# Altium footprint library chip.PcbLib: 89 footprints (part 3 of 6)
Each footprint in its own frame and in the unit in brackets; x right, y up, seen from the top. Pads: shape width x height; smd on the part's side, far side on the other; paste and mask are expansions set on the pad; w line width, h text height; cw(c..) or ccw(c..) is an arc to the next point about the centre after c.
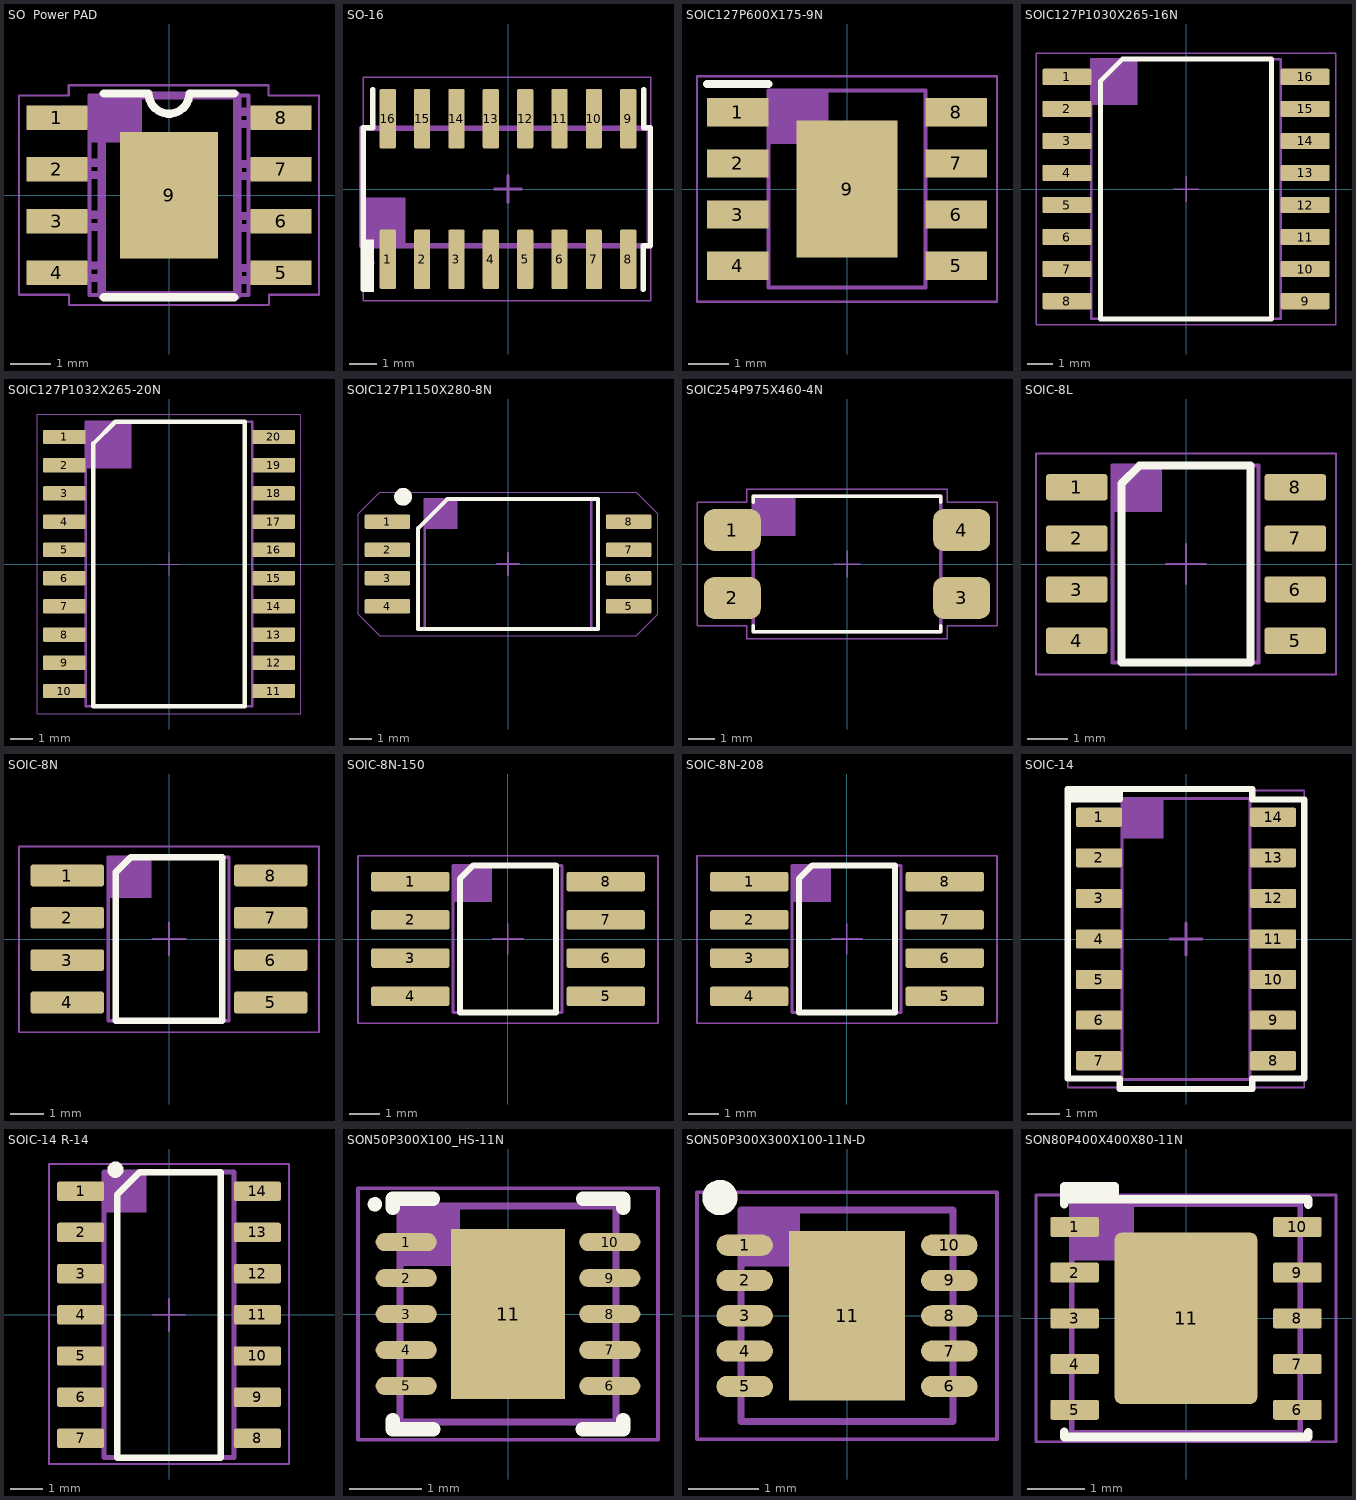
[diagram p2: the footprints below, top view; thin cyan lines are the x and y axes]

## SO  Power PAD [mm]
pads (9):
  rect 1.5x0.6 smd: 1(-2.75,1.905) 2(-2.75,0.635) 3(-2.75,-0.635) 4(-2.75,-1.905) 5(2.75,-1.905) 6(2.75,-0.635) 7(2.75,0.635) 8(2.75,1.905)
  rect 2.4x3.1 smd: 9(0,0)
Top Overlay:
  lines w0.2: -1.6,-2.5 1.6,-2.5 ; -1.6,2.5 -0.5,2.5 ccw(c0,2.5) 0.5,2.5 1.6,2.5
Bottom Dimensions:
  lines w0.2: -2.85,-2.025 -1.65,-2.025 -1.65,-1.725 -2.85,-1.725 -2.85,-2.025 ; -2.85,-0.775 -1.65,-0.775 -1.65,-0.475 -2.85,-0.475 -2.85,-0.775 ; -2.85,0.5 -1.65,0.5 -1.65,0.8 -2.85,0.8 -2.85,0.5 ; -2.85,1.775 -1.65,1.775 -1.65,2.075 -2.85,2.075 -2.85,1.775 ; -1.65,-2.45 -1.65,2.2 -1.4,2.45 1.675,2.45 1.675,-2.45 -1.65,-2.45 ; 1.675,1.75 2.875,1.75 2.875,2.05 1.675,2.05 1.675,1.75 ; 1.687,-2.079 2.887,-2.079 2.887,-1.779 1.687,-1.779 1.687,-2.079 ; 1.687,-0.804 2.887,-0.804 2.887,-0.504 1.687,-0.504 1.687,-0.804 ; 1.687,0.471 2.887,0.471 2.887,0.771 1.687,0.771 1.687,0.471
  text ".Designator" at -1.95,2.9 h1
Top Assembly:
  rectangle: -1.95,1.295 -0.665,2.45
  lines w0.1: -2.95,-1.905 -1.95,-1.905 ; -2.95,-0.635 -1.95,-0.635 ; -2.95,0.635 -1.95,0.635 ; -2.95,1.905 -1.95,1.905 ; 1.95,-1.905 2.95,-1.905 ; 1.95,-0.635 2.95,-0.635 ; 1.95,0.635 2.95,0.635 ; 1.95,1.905 2.95,1.905 ; -1.95,-2.45 -1.95,2.45 1.95,2.45 1.95,-2.45 -1.95,-2.45
Top Courtyard:
  lines w0.051: 3.67,2.45 2.44,2.45 2.44,2.7 -2.46,2.7 -2.46,2.45 -3.68,2.45 -3.68,-2.44 -2.45,-2.44 -2.45,-2.69 2.45,-2.69 2.45,-2.44 3.68,-2.44 3.68,2.45
  lines w0.1: -0.25,0 0.25,0 ; 0,-0.25 0,0.25
3D body "SOIC-8.step": height 1.75, standoff 0, extent -3,-2.45 3,2.45

## SO-16 [mm]
pads (16):
  rrect20% 0.6x2.2 smd: 1(-4.445,-2.6) 2(-3.175,-2.6) 3(-1.905,-2.6) 4(-0.635,-2.6) 5(0.635,-2.6) 6(1.905,-2.6) 7(3.175,-2.6) 8(4.445,-2.6) 9(4.445,2.6) 10(3.175,2.6) 11(1.905,2.6) 12(0.635,2.6) 13(-0.635,2.6) 14(-1.905,2.6) 15(-3.175,2.6) 16(-4.445,2.6)
Top Overlay:
  rectangle: -5.349,-3.8 -4.95,-1.876
  lines w0.2: -5.349,-3.7 -5.349,-2.264 -5.349,2.259 -5.011,2.259 ; -5,2.259 -5,3.675 ; 5,-3.7 5,-2.093 5.268,-2.093 5.268,2.259 5.011,2.259 5.011,3.675
Top Designator:
  text ".Designator" at -3.024,4.5 h0.6
Bottom Dimensions:
  circle w0.2: c-5.15,-2.725 r0.106
Top Assembly:
  rectangle: -5.35,-2.101 -3.78,-0.315
  lines w0.2: -4.604,-2.142 -4.604,-2.942 -4.304,-2.942 -4.304,-2.142 ; -4.594,2.266 -4.594,3.066 -4.294,3.066 -4.294,2.266 ; -3.334,-2.142 -3.334,-2.942 -3.034,-2.942 -3.034,-2.142 ; -3.325,2.275 -3.325,3.075 -3.025,3.075 -3.025,2.275 ; -2.064,-2.142 -2.064,-2.942 -1.764,-2.942 -1.764,-2.142 ; -2.05,2.275 -2.05,3.075 -1.75,3.075 -1.75,2.275 ; -0.794,-2.142 -0.794,-2.942 -0.494,-2.942 -0.494,-2.142 ; -0.775,2.275 -0.775,3.075 -0.475,3.075 -0.475,2.275 ; 0.476,-2.142 0.476,-2.942 0.776,-2.942 0.776,-2.142 ; 0.5,2.275 0.5,3.075 0.8,3.075 0.8,2.275 ; 1.746,-2.142 1.746,-2.942 2.046,-2.942 2.046,-2.142 ; 1.752,2.255 1.752,3.055 2.052,3.055 2.052,2.255 ; 3.016,-2.142 3.016,-2.942 3.316,-2.942 3.316,-2.142 ; 3.039,2.277 3.039,3.077 3.339,3.077 3.339,2.277 ; 4.286,-2.142 4.286,-2.942 4.586,-2.942 4.586,-2.142 ; 4.326,2.284 4.326,3.084 4.626,3.084 4.626,2.284 ; 5.199,2.251 -5.4,2.251 -5.4,-2.101 5.217,-2.101 5.217,2.251
Top Courtyard:
  lines w0.05: -5.35,-4.125 5.275,-4.125 5.275,4.125 -5.35,4.125 -5.35,-4.125
  lines w0.1: -0.5,0 0.5,0 ; 0,-0.5 0,0.5
3D body "User Library-SOIC-16-150.STEP": height 1.64, standoff -0.11, extent -4.953,-3.048 5.047,3.152

## SOIC127P600X175-9N [mm]
pads (9):
  rect 1.525x0.7 smd: 1(-2.712,1.905) 2(-2.712,0.635) 3(-2.712,-0.635) 4(-2.712,-1.905) 5(2.712,-1.905) 6(2.712,-0.635) 7(2.712,0.635) 8(2.712,1.905)
  rect 2.513x3.402 smd: 9(0,0)
Top Overlay:
  lines w0.2: -3.475,2.605 -1.95,2.605
Top Assembly:
  rectangle: -1.95,1.12 -0.455,2.45
  lines w0.1: -1.95,-2.45 -1.95,2.45 1.95,2.45 1.95,-2.45 -1.95,-2.45
Top Courtyard:
  lines w0.05: -3.725,-2.8 -3.725,2.8 3.725,2.8 3.725,-2.8 -3.725,-2.8
3D body "TP4056X.stp": height 1.75, standoff 0, extent -3,-2.45 3,2.45

## SOIC127P1030X265-16N [mm]
pads (16):
  rrect20% 1.95x0.65 smd: 1(-4.725,4.445) 2(-4.725,3.175) 3(-4.725,1.905) 4(-4.725,0.635) 5(-4.725,-0.635) 6(-4.725,-1.905) 7(-4.725,-3.175) 8(-4.725,-4.445) 9(4.725,-4.445) 10(4.725,-3.175) 11(4.725,-1.905) 12(4.725,-0.635) 13(4.725,0.635) 14(4.725,1.905) 15(4.725,3.175) 16(4.725,4.445)
Top Overlay:
  lines w0.2: -3.4,-5.15 -3.4,4.275 -2.525,5.15 3.4,5.15 3.4,-5.15 -3.4,-5.15
Top Designator:
  text ".Designator" at -5.424,5.825 h0.6
Top Assembly:
  rectangle: -3.75,3.325 -1.925,5.15
  lines w0.1: -3.75,-5.15 -3.75,5.15 3.75,5.15 3.75,-5.15 -3.75,-5.15
Top Courtyard:
  lines w0.05: -0.5,0 0.5,0 ; 0,-0.5 0,0.5 ; -5.95,-5.375 -5.95,5.375 5.95,5.375 5.95,-5.375 -5.95,-5.375
3D body "ISO3082DW.stp": height 2.59, standoff 0, extent -5.167,-5.15 5.168,5.15

## SOIC127P1032X265-20N [mm]
pads (20):
  rrect20% 1.925x0.65 smd: 1(-4.712,5.715) 2(-4.712,4.445) 3(-4.712,3.175) 4(-4.712,1.905) 5(-4.712,0.635) 6(-4.712,-0.635) 7(-4.712,-1.905) 8(-4.712,-3.175) 9(-4.712,-4.445) 10(-4.712,-5.715) 11(4.712,-5.715) 12(4.712,-4.445) 13(4.712,-3.175) 14(4.712,-1.905) 15(4.712,-0.635) 16(4.712,0.635) 17(4.712,1.905) 18(4.712,3.175) 19(4.712,4.445) 20(4.712,5.715)
Top Overlay:
  lines w0.2: -3.4,-6.4 3.4,-6.4 3.4,6.4 -2.425,6.4 -3.4,5.425 -3.4,-6.4
Top Designator:
  text ".Designator" at -4.599,7.45 h0.6
Top Assembly:
  rectangle: -3.75,4.305 -1.68,6.4
  lines w0.1: -3.75,-6.4 3.75,-6.4 3.75,6.4 -3.75,6.4 -3.75,-6.4
Top Courtyard:
  lines w0.05: -0.5,0 0.5,0 ; 0,-0.5 0,0.5 ; -5.925,-6.75 -5.925,6.75 5.925,6.75 5.925,-6.75 -5.925,-6.75
3D body "ADM2582EBRWZ-REEL7.stp": height 2.65, standoff 0, extent -5.162,-6.4 5.162,6.4

## SOIC127P1150X280-8N [mm]
pads (8):
  rrect20% 2.05x0.65 smd: 1(-5.425,1.905) 2(-5.425,0.635) 3(-5.425,-0.635) 4(-5.425,-1.905) 5(5.425,-1.905) 6(5.425,-0.635) 7(5.425,0.635) 8(5.425,1.905)
Top Overlay:
  circle w0.4: c-4.725,3.025 r0.2
  lines w0.2: -4.05,-2.925 4.05,-2.925 4.05,2.925 -2.725,2.925 -4.05,1.6 -4.05,-2.925
Top Designator:
  text ".Designator" at -3.049,3.725 h0.6
Top Assembly:
  rectangle: -3.75,1.575 -2.275,2.925
  lines w0.1: -3.75,-2.925 3.75,-2.925 3.75,2.925 -3.75,2.925 -3.75,-2.925
Top Courtyard:
  lines w0.05: -6.75,-2.25 -6.75,2.25 -5.775,3.225 5.775,3.225 6.75,2.25 6.75,-2.25 5.775,-3.225 -5.775,-3.225 -6.75,-2.25
  lines w0.1: -0.5,0 0.5,0 ; 0,-0.5 0,0.5
3D body "CA-IS3050G.stp": height 2.8, standoff 0, extent -5.75,-2.925 5.75,2.925

## SOIC254P975X460-4N [mm]
pads (4):
  rrect50% 2.13x1.57 smd: 1(-4.29,1.27) 2(-4.29,-1.27) 3(4.29,-1.27) 4(4.29,1.27)
Top Overlay:
  lines w0.127: -3.5,-2.304 -3.5,-2.54 3.5,-2.54 3.5,-2.304 ; -3.5,2.304 -3.5,2.54 3.5,2.54 3.5,2.304
Top Designator:
  text ".Designator" at -2.999,3.1 h0.6
Top Assembly:
  rectangle: -3.5,1.05 -1.925,2.54
  lines w0.127: -3.5,-2.54 -3.5,2.54 3.5,2.54 3.5,-2.54 -3.5,-2.54
Top Courtyard:
  lines w0.05: -0.5,0 0.5,0 ; 0,-0.5 0,0.5 ; -5.61,-2.31 -3.75,-2.31 -3.75,-2.79 3.75,-2.79 3.75,-2.31 5.61,-2.31 5.61,2.31 3.75,2.31 3.75,2.79 -3.75,2.79 -3.75,2.31 -5.61,2.31 -5.61,-2.31
3D body "step_temp.STEP": height 4, standoff 0, extent -4.875,-2.29 4.875,2.29

## SOIC-8L [mm] "SOIC127P600X175-8N"
pads (8):
  rrect20% 1.525x0.65 smd: 1(-2.712,1.905) 2(-2.712,0.635) 3(-2.712,-0.635) 4(-2.712,-1.905) 5(2.712,-1.905) 6(2.712,-0.635) 7(2.712,0.635) 8(2.712,1.905)
Top Overlay:
  lines w0.2: -1.6,-2.45 -1.6,2 -1.15,2.45 1.6,2.45 1.6,-2.45 -1.6,-2.45
Top Designator:
  text ".Designator" at -2.999,3.1 h0.6
Top Assembly:
  rectangle: -1.825,1.295 -0.595,2.45
  lines w0.1: -1.825,-2.45 -1.825,2.45 1.8,2.45 1.8,-2.45 -1.825,-2.45
Top Courtyard:
  lines w0.05: -0.5,0 0.5,0 ; 0,-0.5 0,0.5 ; -3.725,-2.75 -3.725,2.75 3.725,2.75 3.725,-2.75 -3.725,-2.75
3D body "SOP-8.STEP": height 1.87, standoff 0, extent -3.11,-2.5 3.11,2.5

## SOIC-8N [mm] "SOIC127P600X175-8N"
pads (8):
  rrect20% 2.2x0.65 smd: 1(-3.05,1.905) 2(-3.05,0.635) 3(-3.05,-0.635) 4(-3.05,-1.905) 5(3.05,-1.905) 6(3.05,-0.635) 7(3.05,0.635) 8(3.05,1.905)
Top Overlay:
  lines w0.2: -1.6,-2.45 1.6,-2.45 1.6,2.45 -1.15,2.45 -1.6,2 -1.6,-2.45
Top Designator:
  text ".Designator" at -2.874,2.925 h0.6
Top Assembly:
  rectangle: -1.825,1.225 -0.525,2.45
  lines w0.1: -1.825,-2.45 1.8,-2.45 1.8,2.45 -1.825,2.45 -1.825,-2.45
Top Courtyard:
  lines w0.05: -0.5,0 0.5,0 ; 0,-0.5 0,0.5 ; -4.5,-2.8 4.5,-2.8 4.5,-1.425 4.5,-0.6 4.5,1.55 4.5,2.775 -4.5,2.775 -4.5,-2.8
3D body "SOP-8.STEP": height 1.87, standoff 0, extent -3.11,-2.5 3.11,2.5

## SOIC-8N-150 [mm]
pads (8):
  rrect20% 2.6x0.65 smd: 1(-3.25,1.905) 2(-3.25,0.635) 3(-3.25,-0.635) 4(-3.25,-1.905) 5(3.25,-1.905) 6(3.25,-0.635) 7(3.25,0.635) 8(3.25,1.905)
Top Overlay:
  lines w0.2: -1.6,-2.45 -1.6,2 -1.15,2.45 1.6,2.45 1.6,-2.45 -1.6,-2.45
Top Designator:
  text ".Designator" at -2.874,2.925 h0.6
Top Assembly:
  rectangle: -1.825,1.225 -0.525,2.45
  lines w0.1: -1.825,-2.45 -1.825,2.45 1.8,2.45 1.8,-2.45 -1.825,-2.45
Top Courtyard:
  lines w0.05: -0.5,0 0.5,0 ; 0,-0.5 0,0.5 ; -4.99,-2.8 -4.99,2.775 4.99,2.775 4.99,1.55 4.99,-0.6 4.99,-1.425 4.99,-2.8 -4.99,-2.8
3D body "SOP-8.STEP": height 1.87, standoff 0, extent -3.11,-2.5 3.11,2.5

## SOIC-8N-208 [mm]
pads (8):
  rrect20% 2.6x0.65 smd: 1(-3.25,1.905) 2(-3.25,0.635) 3(-3.25,-0.635) 4(-3.25,-1.905) 5(3.25,-1.905) 6(3.25,-0.635) 7(3.25,0.635) 8(3.25,1.905)
Top Overlay:
  lines w0.2: -1.6,-2.45 -1.6,2 -1.15,2.45 1.6,2.45 1.6,-2.45 -1.6,-2.45
Top Designator:
  text ".Designator" at -2.874,2.925 h0.6
Top Assembly:
  rectangle: -1.825,1.225 -0.525,2.45
  lines w0.1: -1.825,-2.45 -1.825,2.45 1.8,2.45 1.8,-2.45 -1.825,-2.45
Top Courtyard:
  lines w0.05: -0.5,0 0.5,0 ; 0,-0.5 0,0.5 ; -4.99,-2.8 -4.99,2.775 4.99,2.775 4.99,1.55 4.99,-0.6 4.99,-1.425 4.99,-2.8 -4.99,-2.8
3D body "W25Q80DVSSIG.stp": height 2.16, standoff 0, extent -3.95,-2.64 3.95,2.64

## SOIC-14 [mm] "SOIC, 14-Leads, Body 8.65x3.90mm, Pitch 1.27mm, IPC Medium Density"
height 1.75
pads (14):
  rrect20% 1.45x0.6 smd: 1(-2.725,3.81) 2(-2.725,2.54) 3(-2.725,1.27) 4(-2.725,0) 5(-2.725,-1.27) 6(-2.725,-2.54) 7(-2.725,-3.81) 8(2.725,-3.81) 9(2.725,-2.54) 10(2.725,-1.27) 11(2.725,0) 12(2.725,1.27) 13(2.725,2.54) 14(2.725,3.81)
Top Overlay:
  lines w0.2: -3.7,-4.365 -2.075,-4.365 -2.075,-4.696 2.075,-4.696 2.075,-4.365 3.7,-4.365 ; -3.7,-4.35 -3.7,4.696 -2.075,4.696 ; -3.7,4.365 -2.075,4.365 -2.075,4.696 ; -3.675,4.531 -2.075,4.531 ; 3.7,-4.35 3.7,4.365 2.075,4.365 2.075,4.696 -2.075,4.696
Top Assembly:
  rectangle: -2,3.15 -0.7,4.4
  lines w0.1: -2,-4.4 -2,4.4 2,4.4 2,-4.4 -2,-4.4
Top Courtyard:
  lines w0.05: -3.7,-4.65 -3.7,4.65 3.7,4.65 3.7,-4.65 -3.7,-4.65
  lines w0.1: -0.5,0 0.5,0 ; 0,-0.5 0,0.5
3D body "ANALOG DEVICES SOIC-14 R-14.step": height 1.75, standoff 0, extent -3,-4.4 3,4.4

## SOIC-14 R-14 [mm] "SOIC, 14-Leads, Body 8.65x3.90mm, Pitch 1.27mm, IPC Medium Density"
height 1.75
pads (14):
  rrect20% 1.45x0.6 smd: 1(-2.725,3.81) 2(-2.725,2.54) 3(-2.725,1.27) 4(-2.725,0) 5(-2.725,-1.27) 6(-2.725,-2.54) 7(-2.725,-3.81) 8(2.725,-3.81) 9(2.725,-2.54) 10(2.725,-1.27) 11(2.725,0) 12(2.725,1.27) 13(2.725,2.54) 14(2.725,3.81)
Top Overlay:
  circle w0.25: c-1.65,4.475 r0.125
  lines w0.2: -1.6,-4.4 -1.6,3.7 -0.9,4.4 1.6,4.4 1.6,-4.4 -1.6,-4.4
Top Designator:
  text ".Designator" at -3.224,4.875 h0.6
Top Assembly:
  rectangle: -2,3.15 -0.7,4.4
  lines w0.15: -2.059,-3.673 -2.725,-3.673 -2.725,-3.947 -2,-3.947 ; -2.059,-2.403 -2.725,-2.403 -2.725,-2.677 -2,-2.677 ; -2.059,-1.133 -2.725,-1.133 -2.725,-1.407 -2,-1.407 ; -2.059,0.137 -2.725,0.137 -2.725,-0.137 -2,-0.137 ; -2.059,1.407 -2.725,1.407 -2.725,1.133 -2,1.133 ; -2.059,2.677 -2.725,2.677 -2.725,2.403 -2,2.403 ; -2.059,3.947 -2.725,3.947 -2.725,3.673 -2,3.673 ; 2,-3.673 2.725,-3.673 2.725,-3.947 2.059,-3.947 ; 2,-2.403 2.725,-2.403 2.725,-2.677 2.059,-2.677 ; 2,-1.133 2.725,-1.133 2.725,-1.407 2.059,-1.407 ; 2,0.137 2.725,0.137 2.725,-0.137 2.059,-0.137 ; 2,1.407 2.725,1.407 2.725,1.133 2.059,1.133 ; 2,2.677 2.725,2.677 2.725,2.403 2.059,2.403 ; 2,3.947 2.725,3.947 2.725,3.673 2.059,3.673 ; -2,-4.4 -2,4.4 2,4.4 2,-4.4 -2,-4.4
Top Courtyard:
  lines w0.05: -0.5,0 0.5,0 ; 0,-0.5 0,0.5 ; -3.7,-4.6 -3.7,4.65 3.7,4.65 3.7,-4.6 -3.7,-4.6
3D body "ANALOG DEVICES SOIC-14 R-14.step": height 1.75, standoff 0, extent -3,-4.4 3,4.4

## SON50P300X100_HS-11N [mm]
pads (11):
  oval 0.85x0.25 smd: 1(-1.415,1) 2(-1.415,0.5) 3(-1.415,0) 4(-1.415,-0.5) 5(-1.415,-1) 6(1.415,-1) 7(1.415,-0.5) 8(1.415,0) 9(1.415,0.5) 10(1.415,1)
  rect 1.58x2.36 smd paste-50: 11(0,0)
Top Overlay:
  circle w0.1: c-1.85,1.525 r0.05
  lines w0.2: -1.603,1.478 -1.603,1.603 -1.043,1.603 ; -1.602,-1.477 -1.602,-1.602 -1.042,-1.602 ; 1.041,-1.603 1.601,-1.603 1.601,-1.478 ; 1.043,1.604 1.603,1.604 1.603,1.479
Top Paste:
  region: -0.508,-0.254 -0.508,-1.016 0.508,-1.016 0.508,-0.254
  region: 0.508,0.254 0.508,1.016 -0.508,1.016 -0.508,0.254
Top Designator:
  text ".Designator" at -3.074,2.025 h0.6
Top Assembly:
  rectangle: -1.5,0.665 -0.665,1.5
  lines w0.1: -1.5,-1.5 1.5,-1.5 1.5,1.5 -1.5,1.5 -1.5,-1.5
Top Courtyard:
  lines w0.05: -0.5,0 0.5,0 ; 0,-0.5 0,0.5 ; -2.085,-1.75 2.085,-1.75 2.085,1.75 -2.085,1.75 -2.085,-1.75
3D body "SON50P300X100_HS-11N.step": height 1, standoff 0, extent -1.501,-1.5 1.501,1.5

## SON50P300X300X100-11N-D [mm]
pads (11):
  rrect100% 0.8x0.3 smd: 1(-1.45,1) 2(-1.45,0.5) 3(-1.45,0) 4(-1.45,-0.5) 5(-1.45,-1) 6(1.45,-1) 7(1.45,-0.5) 8(1.45,0) 9(1.45,0.5) 10(1.45,1)
  rect 1.65x2.4 smd: 11(0,0)
Top Overlay:
  circle w0.25: c-1.8,1.675 r0.125
Top Assembly:
  rectangle: -1.5,0.7 -0.665,1.5
  lines w0.1: -1.5,-1.5 1.5,-1.5 1.5,1.5 -1.5,1.5 -1.5,-1.5
Top Courtyard:
  lines w0.05: -2.125,-1.75 -2.125,1.75 2.125,1.75 2.125,-1.75 -2.125,-1.75
3D body "ST1S50PUR.stp": height 1, standoff 0, extent -1.55,-1.5 1.55,1.5

## SON80P400X400X80-11N [mm]
pads (11):
  rrect20% 0.85x0.35 smd: 1(-1.95,1.6) 2(-1.95,0.8) 3(-1.95,0) 4(-1.95,-0.8) 5(-1.95,-1.6) 6(1.95,-1.6) 7(1.95,-0.8) 8(1.95,0) 9(1.95,0.8) 10(1.95,1.6)
  rrect10% 2.5x3 smd paste+0: 11(0,0)
Top Overlay:
  lines w0.15: -2.134,1.998 -2.134,2.083 ; -2.131,-1.984 -2.131,-2.077 2.14,-2.077 2.14,-1.992 ; -2.128,2.19 -1.245,2.19 -1.245,2.311 -2.134,2.311 -2.134,2.083 ; 2.137,1.99 2.137,2.083 -2.134,2.083
Top Designator:
  text ".Designator" at -3.101,2.365 h0.6
Top Assembly:
  rectangle: -2,1.015 -0.91,2
  lines w0.1: -2,-2 2,-2 2,2 -2,2 -2,-2
Top Courtyard:
  lines w0.05: -0.5,0 0.5,0 ; 0,-0.5 0,0.5 ; -2.625,-2.159 2.625,-2.159 2.625,2.159 -2.625,2.159 -2.625,-2.159
3D body "TPP60508L1-DF9R.stp": height 0.8, standoff 0, extent -2.05,-2 2.05,2